# Altium footprint library d203.PcbLib: 102 footprints (part 6 of 7)
Each footprint in its own frame and in the unit in brackets; x right, y up, seen from the top. Pads: shape width x height; smd on the part's side, far side on the other; paste and mask are expansions set on the pad; w line width, h text height; cw(c..) or ccw(c..) is an arc to the next point about the centre after c.
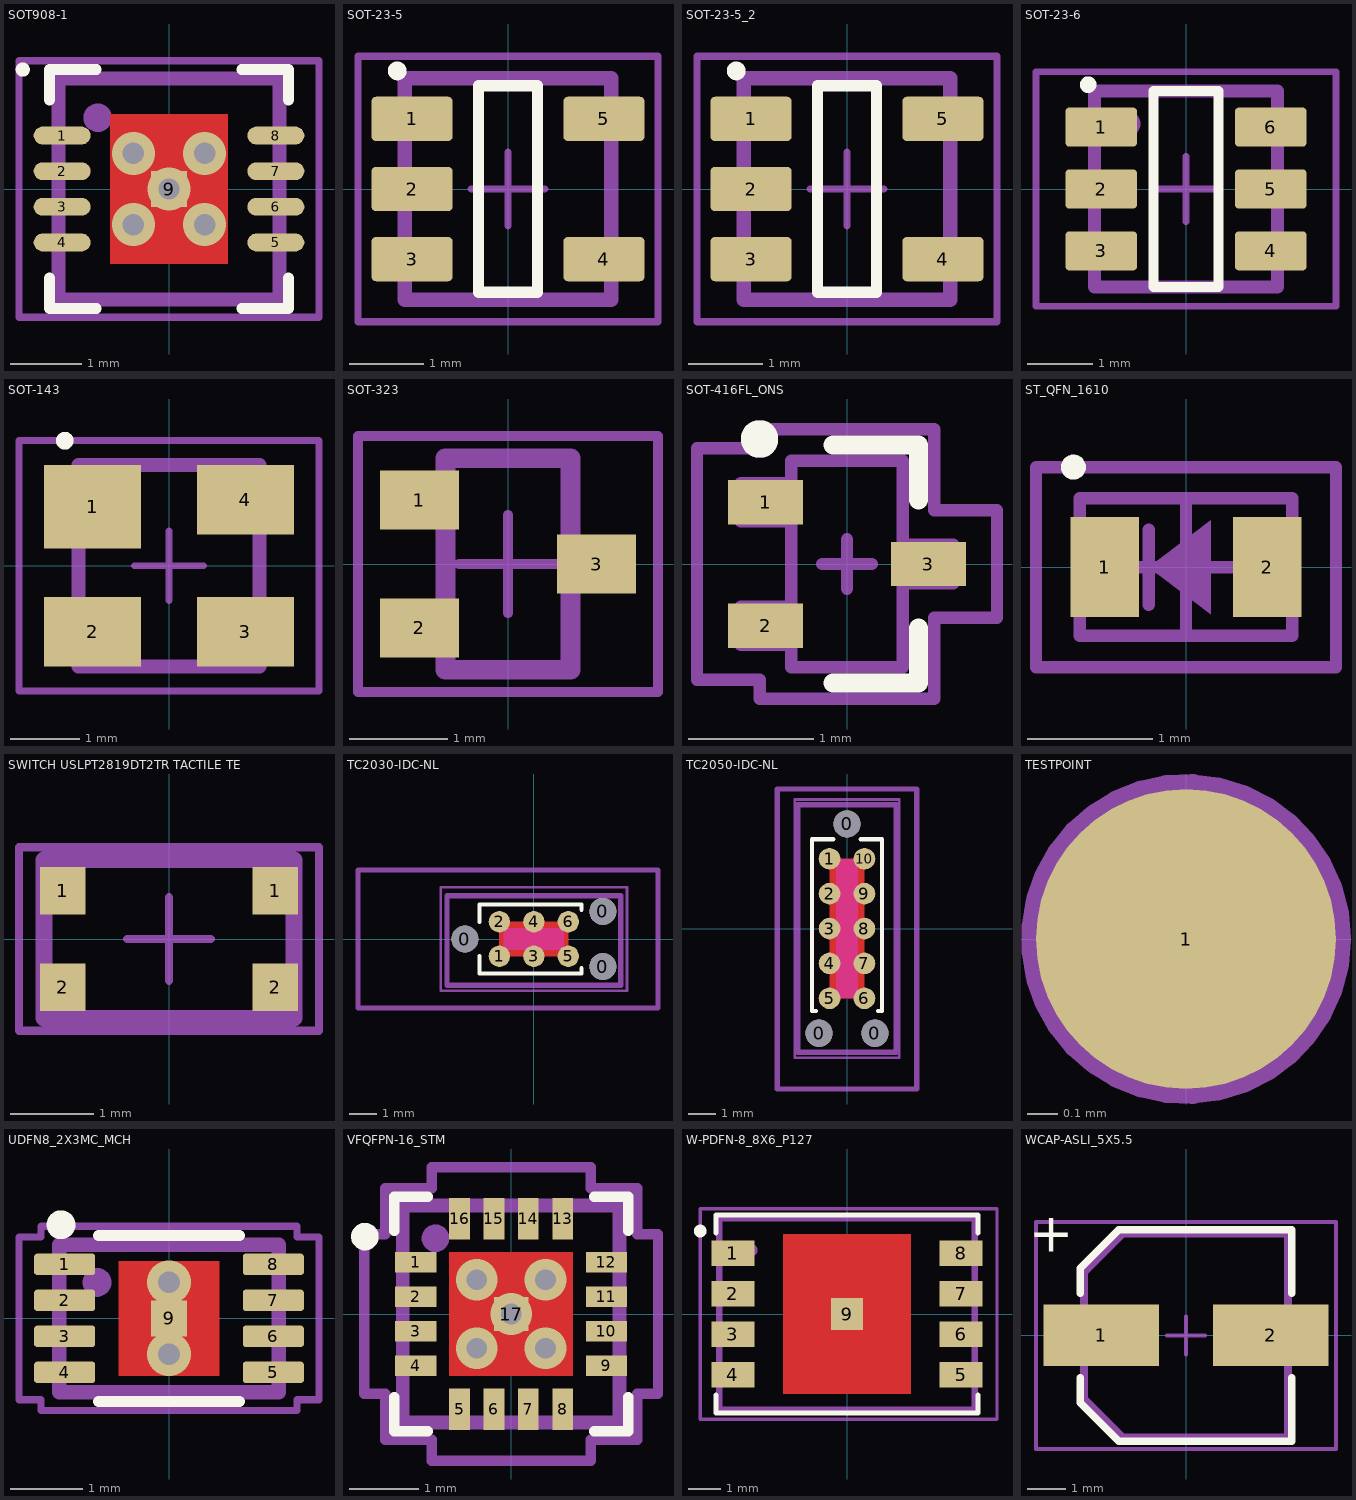
[diagram p5: the footprints below, top view; thin cyan lines are the x and y axes]

## SOT908-1 [mm]
pads (9):
  rrect100% 0.8x0.25 smd mask+0.05: 1(-1.5,0.75) 2(-1.5,0.25) 3(-1.5,-0.25) 4(-1.5,-0.75) 5(1.5,-0.75) 6(1.5,-0.25) 7(1.5,0.25) 8(1.5,0.75)
  rect 0.5x0.5 smd mask+0.05: 9(0,0)
via -0.5,-0.5 diameter 0.605 hole 0.3
via 0.5,-0.5 diameter 0.605 hole 0.3
via 0.5,0.5 diameter 0.605 hole 0.3
via -0.5,0.5 diameter 0.605 hole 0.3
via 0,0 diameter 0.605 hole 0.3
Top Layer:
  rectangle: -0.825,-1.05 0.825,1.05
Top Overlay:
  circle w0.1: c-2.052,1.676 r0.05
  lines w0.152: -1.676,-1.251 -1.676,-1.676 -1.021,-1.676 ; -1.676,1.251 -1.676,1.676 -1.021,1.676 ; 1.021,-1.676 1.676,-1.676 1.676,-1.251 ; 1.021,1.676 1.676,1.676 1.676,1.251
Top Paste:
  rectangle: -0.825,-1.05 0.825,1.05
Top Solder:
  rectangle: -0.875,-1.1 0.875,1.1
Mechanical 14:
  circle w0.2: c-1,1 r0.1
  lines w0.2: -1.55,-1.55 -1.55,1.55 1.55,1.55 1.55,-1.55 -1.55,-1.55
  text "'.Designator'" at 0.254,-1.016 h0.5
Mechanical 15:
  lines w0.1: -0.5,0 0.5,0 ; 0,-0.5 0,0.5 ; -2.105,-1.8 -2.105,1.8 2.105,1.8 2.105,-1.8 -2.105,-1.8
3D body "SON50P300X100_HS-9N.step": height 1, standoff 0, extent -1.551,-1.55 1.551,1.55

## SOT-23-5 [mm]
pads (5):
  rrect20% 1.1x0.6 smd mask+0.05: 1(-1.3,0.95) 2(-1.3,0) 3(-1.3,-0.95) 4(1.3,-0.95) 5(1.3,0.95)
Top Overlay:
  circle w0.152: c-1.5,1.6 r0.051
  lines w0.152: -0.4,-1.4 -0.4,1.4 0.4,1.4 0.4,-1.4 -0.4,-1.4
Mechanical 14:
  circle w0.2: c-1,1 r0.1
  lines w0.2: -1.4,-1.5 -1.4,1.5 1.4,1.5 1.4,-1.5 -1.4,-1.5
  text ".Designator" at -1,-0.2 h0.5
Mechanical 15:
  lines w0.1: -0.5,0 0.5,0 ; 0,-0.5 0,0.5 ; -2.032,-1.8 2.032,-1.8 2.032,1.8 -2.032,1.8 -2.032,-1.8
3D body "SOT-23-5.STEP": height 1.25, standoff 0, extent -1.4,-1.5 1.4,1.5

## SOT-23-5_2 [mm]
pads (5):
  rrect20% 1.1x0.6 smd mask+0.05: 1(-1.3,0.95) 2(-1.3,0) 3(-1.3,-0.95) 4(1.3,-0.95) 5(1.3,0.95)
Top Overlay:
  circle w0.152: c-1.5,1.6 r0.051
  lines w0.152: -0.4,-1.4 0.4,-1.4 0.4,1.4 -0.4,1.4 -0.4,-1.4
Mechanical 14:
  circle w0.2: c-1,1 r0.1
  lines w0.2: -1.4,-1.5 1.4,-1.5 1.4,1.5 -1.4,1.5 -1.4,-1.5
  text ".Designator" at -0.127,0.762 h0.5
Mechanical 15:
  lines w0.1: -0.5,0 0.5,0 ; 0,-0.5 0,0.5 ; -2.032,-1.8 -2.032,1.8 2.032,1.8 2.032,-1.8 -2.032,-1.8
3D body "SOT-23-5.STEP": height 1.25, standoff 0, extent -1.4,-1.5 1.4,1.5

## SOT-23-6 [mm]
pads (6):
  rrect20% 1.1x0.6 smd mask+0.05: 1(-1.3,0.95) 2(-1.3,0) 3(-1.3,-0.95) 4(1.3,-0.95) 5(1.3,0) 6(1.3,0.95)
Top Overlay:
  circle w0.152: c-1.5,1.6 r0.051
  lines w0.152: -0.5,-1.5 -0.5,1.5 0.5,1.5 0.5,-1.5 -0.5,-1.5
Mechanical 14:
  circle w0.2: c-0.9,1 r0.1
  lines w0.2: -1.4,-1.5 -1.4,1.5 1.4,1.5 1.4,-1.5 -1.4,-1.5
  text ".Designator" at -1,-0.2 h0.5
Mechanical 15:
  lines w0.1: -0.5,0 0.5,0 ; 0,-0.5 0,0.5 ; -2.3,-1.8 2.3,-1.8 2.3,1.8 -2.3,1.8 -2.3,-1.8
3D body "SOT-23-6 (DBV).STEP": height 1.25, standoff 0, extent -1.4,-1.5 1.4,1.5

## SOT-143 [mm]
pads (4):
  rect 1.4x1.2 smd: 1(-1.1,0.85)
  rect 1.4x1 smd: 2(-1.1,-0.95) 3(1.1,-0.95) 4(1.1,0.95)
Top Overlay:
  circle w0.152: c-1.5,1.8 r0.051
Mechanical 14:
  circle w0.2: c-0.8,1 r0.1
  lines w0.2: -1.3,-1.448 1.3,-1.448 1.3,1.448 -1.3,1.448 -1.3,-1.448
  text "'.Designator'" at -0.8,-0.3 h0.5
Mechanical 15:
  lines w0.1: -0.5,0 0.5,0 ; 0,-0.5 0,0.5 ; -2.159,-1.8 2.159,-1.8 2.159,1.8 -2.159,1.8 -2.159,-1.8
3D body "SOT-143.STEP": height 1.17, standoff 0, extent -1.32,-1.45 1.32,1.45

## SOT-323 [mm]
pads (3):
  rect 0.8x0.6 smd: 1(-0.9,0.65) 2(-0.9,-0.65) 3(0.9,0)
Mechanical 14:
  circle w0.2: c-1.016,0.635 r0.05
  lines w0.2: -0.635,-1.075 0.635,-1.075 0.635,1.075 -0.635,1.075 -0.635,-1.075
  text "'.Designator'" at -0.254,0.889 h0.5
Mechanical 15:
  lines w0.1: -0.5,0 0.5,0 ; 0,-0.5 0,0.5 ; -1.524,-1.3 -1.524,1.3 1.524,1.3 1.524,-1.3 -1.524,-1.3
3D body "SOT-323.STEP": height 1.05, standoff 0, extent -1.05,-1.075 1.05,1.075

## SOT-416FL_ONS [mm]
pads (3):
  rect 0.6x0.356 smd: 1(-0.65,0.495) 2(-0.65,-0.495) 3(0.65,0)
Top Overlay:
  circle w0.2: c-0.7,1 r0.05
  lines w0.152: -0.111,-0.953 0.572,-0.953 0.572,-0.511 ; -0.111,0.953 0.572,0.953 0.572,0.511
Mechanical 14:
  circle w0.2: c-0.7,1 r0.05
  lines w0.1: -0.851,-0.648 -0.445,-0.648 -0.445,-0.343 -0.851,-0.343 -0.851,-0.648 ; -0.851,0.343 -0.445,0.343 -0.445,0.648 -0.851,0.648 -0.851,0.343 ; -0.445,-0.826 0.445,-0.826 0.445,0.826 -0.445,0.826 -0.445,-0.826 ; 0.445,-0.152 0.851,-0.152 0.851,0.152 0.445,0.152 0.445,-0.152
  text "'.Designator'" at 0.3,-0.7 h0.5
Mechanical 15:
  lines w0.1: -0.2,0 0.2,0 ; 0,-0.2 0,0.2 ; -1.2,-0.927 -1.2,0.927 -0.699,0.927 -0.699,1.079 0.699,1.079 0.699,0.432 1.2,0.432 1.2,-0.432 0.699,-0.432 0.699,-1.079 -0.699,-1.079 -0.699,-0.927 -1.2,-0.927
3D body "SOT-416FL_ONS.step": height 0.89, standoff 0, extent -0.851,-0.826 0.851,0.826

## ST_QFN_1610 [mm]
pads (2):
  rect 0.55x0.8 smd: 1(-0.65,0) 2(0.65,0)
Top Overlay:
  circle w0.1: c-0.9,0.8 r0.05
Mechanical 14:
  region: -0.3,0 0.2,0.375 0.2,-0.375
  lines w0.1: -0.3,-0.3 -0.3,0.3 ; -0.85,-0.55 -0.85,0.55 0.85,0.55 0.85,-0.55 -0.85,-0.55
  text "'.Designator'" at -0.635,-1.651 h0.5
Mechanical 15:
  lines w0.1: -0.5,0 0.5,0 ; 0,-0.5 0,0.5 ; -1.2,-0.8 -1.2,0.8 1.2,0.8 1.2,-0.8 -1.2,-0.8
3D body "ST_1610.step": height 0.6, standoff 0, extent -0.85,-0.55 0.85,0.55

## SWITCH USLPT2819DT2TR TACTILE TE [mm]
pads (4):
  rect 0.55x0.57 smd: 1(-1.275,0.58) 1(1.275,0.58) 2(-1.275,-0.58) 2(1.275,-0.58)
Mechanical 14:
  lines w0.2: -1.5,-0.95 1.5,-0.95 1.5,0.95 -1.5,0.95 -1.5,-0.95
  text "'.Designator'" at 0.762,0.127 h0.5
Mechanical 15:
  lines w0.1: -0.5,0 0.5,0 ; 0,-0.5 0,0.5 ; -1.8,-1.1 -1.8,1.1 1.8,1.1 1.8,-1.1 -1.8,-1.1
3D body "c-2337225-1-a-3d.stp": height 0.6, standoff 0, extent -1.5,-0.95 1.5,0.95

## TC2030-IDC-NL [mil]
pads (9):
  round 39 hole 39 unplated paste-20: 0(-100,0) 0(100,-40) 0(100,40)
  round 31 smd paste-16: 1(-50,-25) 2(-50,25) 3(0,-25) 4(0,25) 5(50,-25) 6(50,25)
Top Layer:
  pour cut-out: -50,25 50,25 50,-25 -50,-25
Top Layer keep-out:
  rectangle: -44,-16 44,16
Top Overlay:
  lines w5.98: -78.74,-24.61 -78.74,-50 68.9,-50 68.9,-42.32 ; -78.74,24.61 -78.74,50 68.9,50 68.9,42.32
Mechanical 14:
  lines w7.87: -125.98,-66.93 -125.98,62.99 125.98,62.99 125.98,-66.93 -125.98,-66.93
  text "6" at 43.31,15.75 h19.68
  text "5" at 43.31,-35.43 h19.68
  text "4" at -7.87,15.75 h19.68
  text "3" at -7.87,-35.43 h19.68
  text "2" at -59.06,15.75 h19.68
  text "1" at -55.12,-35.43 h19.68
  text "'.Designator'" at -39.37,-7.87 h19.68
Mechanical 15:
  lines w3.94: -19.68,0 19.68,0 ; 0,-19.68 0,19.68 ; -135,-75 -135,75 135,75 135,-75 -135,-75
Mechanical 19:
  lines w7.87: -255,-100 -255,100 180,100 180,-100 -255,-100

## TC2050-IDC-NL [mil]
pads (13):
  round 39 hole 39 unplated: 0(-40,-150) 0(0,150) 0(40,-150)
  round 31 smd paste-16: 1(-25,100) 2(-25,50) 3(-25,0) 4(-25,-50) 5(-25,-100) 6(25,-100) 7(25,-50) 8(25,0) 9(25,50) 10(25,100)
Top Layer:
  pour cut-out: -25,100 25,100 25,-100 -25,-100
Top Layer keep-out:
  region: -16,100 -16,-100 16,-100 16,100
Top Overlay:
  lines w6: -44.29,-118.11 -50,-118.11 -50,127.95 -19.68,127.95 ; 19.68,127.95 50,127.95 50,-118.11 44.29,-118.11
Mechanical 14:
  lines w7.87: -70.87,-177.17 70.87,-177.17 70.87,177.17 -70.87,177.17 -70.87,-177.17
  text "6" at 19.68,-106.3 h19.68
  text "5" at -31.5,-110.24 h19.68
  text "4" at -35.43,-59.06 h19.68
  text "7" at 19.68,-59.06 h19.68
  text "3" at -31.5,-7.87 h19.68
  text "8" at 19.68,-7.87 h19.68
  text "2" at -31.5,39.37 h19.68
  text "9" at 19.68,39.37 h19.68
  text "1" at -27.56,90.55 h19.68
  text "10" at 11.81,90.55 h19.68
  text "'.Designator'" at -78.74,192.91 h19.68
Mechanical 15:
  lines w3.94: -19.68,0 19.68,0 ; 0,-19.68 0,19.68 ; -74.8,-185.04 -74.8,185.04 74.8,185.04 74.8,-185.04 -74.8,-185.04
Mechanical 19:
  lines w7.87: -100,-230 -100,200 100,200 100,-230 -100,-230

## TESTPOINT [mm]
pads (1):
  round 1 smd paste-0.508 mask-0.025: 1(0,0)
Mechanical 14:
  circle w0.1: c0,0 r0.5
  text "'.Designator'" at -1.372,1.041 h0.5
3D body: height -0.19, standoff -0.2, extent -0.496,-0.499 0.5,0.499

## UDFN8_2X3MC_MCH [mm]
pads (9):
  rrect30% 0.85x0.3 smd mask+0.05: 1(-1.45,0.75) 2(-1.45,0.25) 3(-1.45,-0.25) 4(-1.45,-0.75) 5(1.45,-0.75) 6(1.45,-0.25) 7(1.45,0.25) 8(1.45,0.75)
  rect 0.5x0.5 smd mask+0.05: 9(0,0)
via 0,0.5 diameter 0.605 hole 0.3
via 0,-0.5 diameter 0.605 hole 0.3
Top Layer:
  rectangle: -0.7,-0.8 0.7,0.8
Top Overlay:
  circle w0.2: c-1.5,1.3 r0.1
  lines w0.152: -0.982,-1.152 0.982,-1.152 ; -0.982,1.152 0.982,1.152
Top Paste:
  rectangle: -0.7,-0.8 0.7,0.8
Top Solder:
  rectangle: -0.75,-0.85 0.75,0.85
Mechanical 14:
  circle w0.2: c-1,0.5 r0.1
  lines w0.2: -1.525,-1.025 1.525,-1.025 1.525,1.025 -1.525,1.025 -1.525,-1.025
  text "'.Designator'" at 1.016,0 h0.5
Mechanical 15:
  lines w0.1: -0.5,0 0.5,0 ; 0,-0.5 0,0.5 ; -2.084,-1.131 -2.084,1.131 -1.779,1.131 -1.779,1.279 1.779,1.279 1.779,1.131 2.084,1.131 2.084,-1.131 1.779,-1.131 1.779,-1.279 -1.779,-1.279 -1.779,-1.131 -2.084,-1.131
3D body "UDFN8_2x3MC_MCH.step": height 0.48, standoff 0, extent -1.525,-1.025 1.525,1.025

## VFQFPN-16_STM [mm]
pads (17):
  rect 0.6x0.3 smd mask+0.05: 1(-1.385,0.75) 2(-1.385,0.25) 3(-1.385,-0.25) 4(-1.385,-0.75) 9(1.385,-0.75) 10(1.385,-0.25) 11(1.385,0.25) 12(1.385,0.75)
  rect 0.3x0.6 smd mask+0.05: 5(-0.75,-1.385) 6(-0.25,-1.385) 7(0.25,-1.385) 8(0.75,-1.385) 13(0.75,1.385) 14(0.25,1.385) 15(-0.25,1.385) 16(-0.75,1.385)
  rect 0.5x0.5 smd mask+0.05: 17(0,0)
via 0,0 diameter 0.605 hole 0.3
via 0.5,-0.5 diameter 0.605 hole 0.3
via -0.5,-0.5 diameter 0.605 hole 0.3
via 0.5,0.5 diameter 0.605 hole 0.3
via -0.5,0.5 diameter 0.605 hole 0.3
Top Layer:
  rectangle: -0.9,-0.9 0.9,0.9
Top Overlay:
  circle w0.2: c-2.125,1.125 r0.1
  lines w0.152: -1.702,-1.21 -1.702,-1.702 -1.21,-1.702 ; -1.702,1.21 -1.702,1.702 -1.21,1.702 ; 1.21,-1.702 1.702,-1.702 1.702,-1.21 ; 1.21,1.702 1.702,1.702 1.702,1.21
Top Paste:
  rectangle: -0.9,-0.9 0.9,0.9
Top Solder:
  rectangle: -0.95,-0.95 0.95,0.95
Mechanical 14:
  circle w0.2: c-1.1,1.1 r0.1
  lines w0.2: -1.575,-1.575 1.575,-1.575 1.575,1.575 -1.575,1.575 -1.575,-1.575
  text "'.Designator'" at -1,-0.2 h0.5
Mechanical 15:
  lines w0.1: -0.5,0 0.5,0 ; 0,-0.5 0,0.5
  lines w0.152: -2.134,-1.156 -1.829,-1.156 -1.829,-1.829 -1.156,-1.829 -1.156,-2.134 1.156,-2.134 1.156,-1.829 1.829,-1.829 1.829,-1.156 2.134,-1.156 2.134,1.156 1.829,1.156 1.829,1.829 1.156,1.829 1.156,2.134 -1.156,2.134 -1.156,1.829 -1.829,1.829 -1.829,1.156 -2.134,1.156 -2.134,-1.156
3D body "VFQFPN-16_STM.step": height 0.94, standoff 0, extent -1.575,-1.575 1.575,1.575

## W-PDFN-8_8X6_P127 [mm]
pads (9):
  rect 1.35x0.8 smd mask+0.05: 1(-3.575,1.905) 2(-3.575,0.635) 3(-3.575,-0.635) 4(-3.575,-1.905) 5(3.575,-1.905) 6(3.575,-0.635) 7(3.575,0.635) 8(3.575,1.905)
  rect 1x1 smd mask+0.05: 9(0,0)
Top Layer:
  rectangle: -2,-2.5 2,2.5
Top Overlay:
  circle w0.2: c-4.6,2.6 r0.1
  lines w0.152: -4.1,-2.54 -4.1,-3.1 4.1,-3.1 4.1,-2.54 ; -4.1,2.54 -4.1,3.1 4.1,3.1 4.1,2.54
Top Paste:
  rectangle: -2,-2.5 2,2.5
Top Solder:
  rectangle: -2.05,-2.55 2.05,2.55
Mechanical 14:
  circle w0.2: c-3,2 r0.1
  lines w0.2: 4,3 -4,3 -4,-3 4,-3 4,3 ; 4,3 4,3
  text ".Designator" at 0,0.889 h0.5
Mechanical 15:
  lines w0.1: -0.635,0 0.635,0 ; 0,-0.635 0,0.635 ; -4.6,-3.3 -4.6,3.3 4.7,3.3 4.7,-3.3 -4.6,-3.3
3D body: height 0.8, standoff 0, extent -4.005,-3.005 4.005,3.005

## WCAP-ASLI_5X5.5 [mm]
pads (2):
  rect 3x1.6 smd: 1(-2.2,0) 2(2.2,0)
Top Overlay:
  lines w0.2: -2.75,-1.1 -2.75,-1.75 -1.75,-2.75 2.75,-2.75 2.75,-1.1 ; -2.75,1.1 -2.75,1.75 -1.75,2.75 2.75,2.75 2.75,1.1
  text "+" at -2.921,3.048 h1.02
Mechanical 14:
  lines w0.2: -2.65,-1.65 -1.65,-2.65 2.65,-2.65 2.65,2.65 -1.65,2.65 -2.65,1.65 -2.65,-1.65
  text "'.Designator'" at 0.254,-0.635 h0.5
  text "+" at -1.524,0.508 h1.02
Mechanical 15:
  lines w0.1: -0.5,0 0.5,0 ; 0,-0.5 0,0.5 ; -3.9,-2.95 -3.9,2.95 3.9,2.95 3.9,-2.95 -3.9,-2.95
3D body "5x5.5x1.4.stp": height 5.5, standoff 0, extent -3,-2.65 3,2.65